# Altium footprint library Power Distribution Board PCB Lib.PcbLib: 19 footprints (part 1 of 2)
Each footprint in its own frame and in the unit in brackets; x right, y up, seen from the top. Pads: shape width x height; smd on the part's side, far side on the other; paste and mask are expansions set on the pad; w line width, h text height; cw(c..) or ccw(c..) is an arc to the next point about the centre after c.
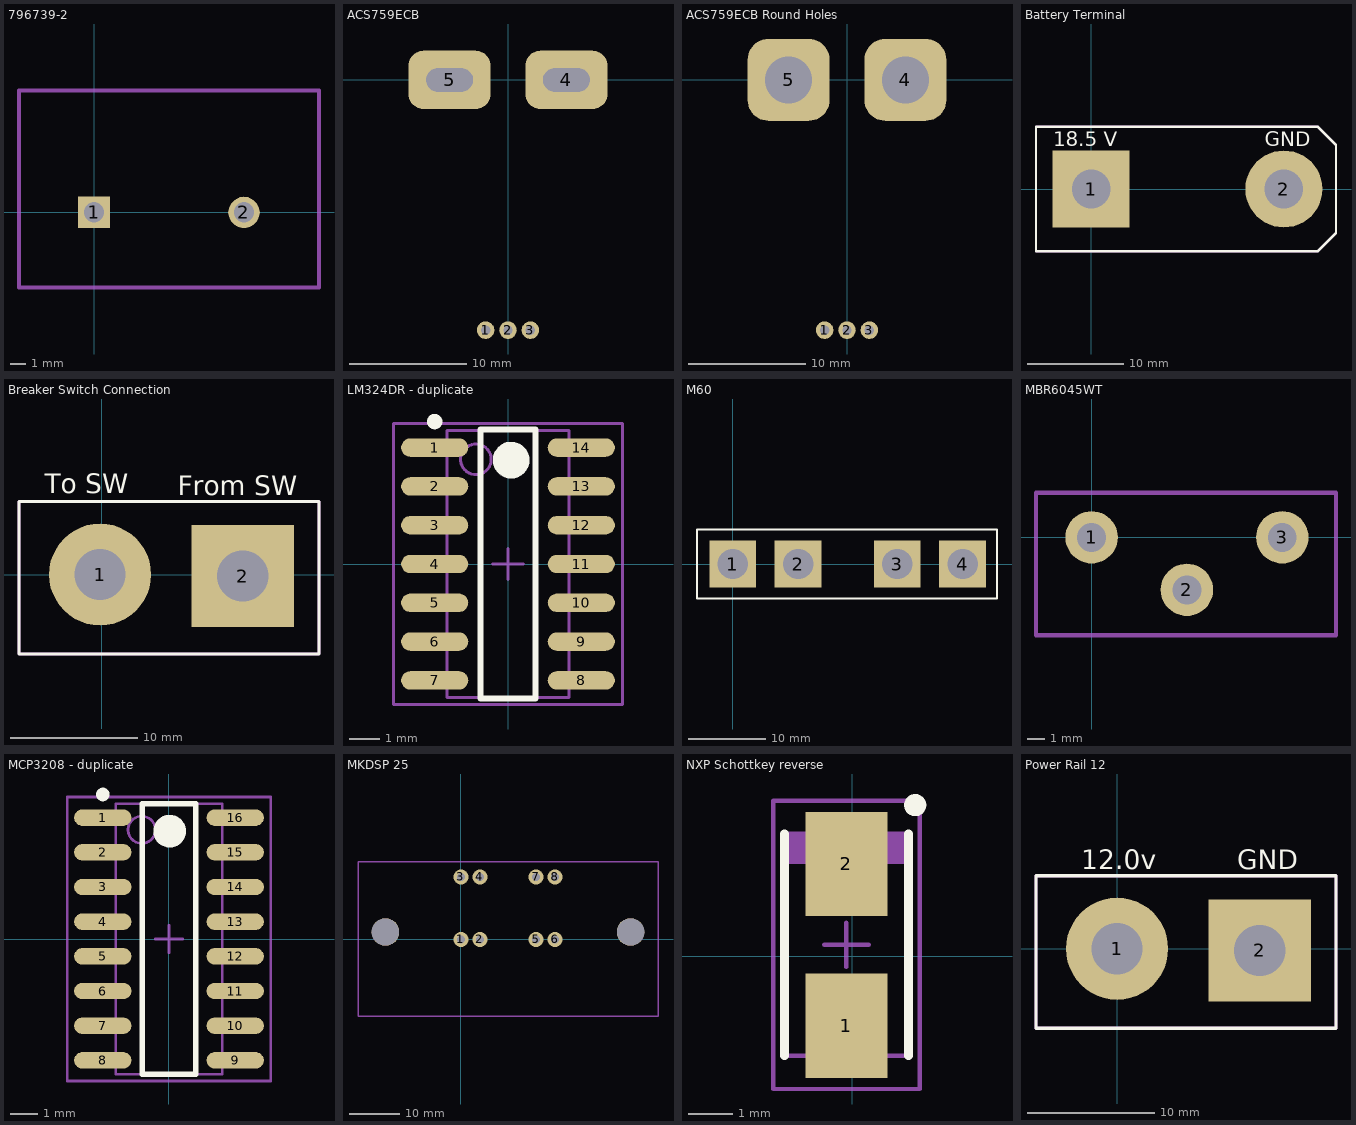
[diagram p0: the footprints below, top view; thin cyan lines are the x and y axes]

## 796739-2 [mm] "796739-2 Screw Terminal"
height 9.53
pads (2):
  rect 2x2 hole 1.3: 1(0,0)
  round 2 hole 1.3: 2(9.52,0)
Mechanical 1:
  lines w0.254: -4.76,-4.76 14.28,-4.76 14.28,7.74 -4.76,7.74 -4.76,-4.76

## ACS759ECB [mm] "Current Sensor"
height 7
pads (5):
  round 1.5 hole 0.8: 1(-1.91,-21.4) 2(0,-21.4) 3(1.91,-21.4)
  rrect50% 7x5 hole 2 slot 4 at 0 deg: 4(5,0) 5(-5,0)

## ACS759ECB Round Holes [mm] "Current Sensor"
height 7
pads (5):
  round 1.5 hole 0.8: 1(-1.91,-21.4) 2(0,-21.4) 3(1.91,-21.4)
  rrect50% 7x7 hole 4: 4(5,0) 5(-5,0)

## Battery Terminal [mm] "Custom batery Terminal"
pads (2):
  rect 8x8 hole 4: 1(0,0)
  round 8 hole 4: 2(20,0)
Top Overlay:
  lines w0.254: -5.715,-6.477 -5.715,6.477 23.495,6.477 25.4,4.572 25.4,-4.572 23.495,-6.477 -5.715,-6.477
  text "18.5 V" at -3.937,4.445 h1.52
  text "GND" at 18.034,4.445 h1.52
Mechanical 1:
  lines w0.254: -5.715,-6.477 -5.715,6.477 23.495,6.477 25.4,4.572 25.4,-4.572 23.495,-6.477 -5.715,-6.477
Mechanical 13:
  lines w0.254: -5.715,-6.477 -5.715,6.477 23.495,6.477 25.4,4.572 25.4,-4.572 23.495,-6.477 -5.715,-6.477

## Breaker Switch Connection [mm]
pads (2):
  round 8 hole 4: 1(-0.127,0)
  rect 8x8 hole 4: 2(11.049,-0.127)
Top Overlay:
  lines w0.254: -6.477,-6.223 17.018,-6.223 17.018,5.715 -6.477,5.715 -6.477,-6.096 -6.477,-6.223
  text "To SW" at -4.445,6.35 h1.52
  text "From SW" at 5.969,6.223 h1.52
Mechanical 13:
  lines w0.254: -6.477,-6.223 17.018,-6.223 17.018,5.715 -6.477,5.715 -6.477,-6.223

## LM324DR [mm] "LM324DR OpAmp"

## LM324DR - duplicate [mm] "LM324DR OPAMP"
height 1.75
pads (14):
  oval 2.2x0.6 smd: 1(-2.4,3.81) 2(-2.4,2.54) 3(-2.4,1.27) 4(-2.4,0) 5(-2.4,-1.27) 6(-2.4,-2.54) 7(-2.4,-3.81) 8(2.4,-3.81) 9(2.4,-2.54) 10(2.4,-1.27) 11(2.4,0) 12(2.4,1.27) 13(2.4,2.54) 14(2.4,3.81)
Top Overlay:
  circle w0.25: c-2.4,4.66 r0.125
  circle w0.6: c0.1,3.4 r0.3
  lines w0.2: -0.9,-4.4 -0.9,4.4 0.9,4.4 0.9,-4.4 -0.9,-4.4
Mechanical 13:
  circle w0.1: c-1.05,3.425 r0.5
  lines w0.1: -2,-4.375 -2,4.375 2,4.375 2,-4.375 -2,-4.375
Mechanical 15:
  lines w0.1: -0.5,0 0.5,0 ; 0,-0.5 0,0.5 ; -3.75,-4.6 -3.75,4.6 3.75,4.6 3.75,-4.6 -3.75,-4.6
3D body: height 1.75, standoff 0.25, extent -2,-4.375 2,4.375

## M60 [mm] "Automotive fuse carrier"
pads (4):
  rect 6x6 hole 3.9: 1(0,0) 2(8.4,0) 3(21.1,0) 4(29.5,0)
Top Overlay:
  lines w0.254: -4.572,-4.445 -4.572,4.445 33.909,4.445 33.909,-4.445 -4.572,-4.445

## MBR6045WT [mm] "Rectifier Diode"
pads (3):
  round 3 hole 1.65: 1(0,0) 2(5.45,-3) 3(10.9,0)
Mechanical 13:
  lines w0.254: -3.175,-5.588 -3.175,2.54 13.97,2.54 13.97,-5.588 -3.175,-5.588

## MBR6045WTG [mm] "Schottky Diode"

## MCP3208 [mm] "MCP3208 ADC"
height 1.25

## MCP3208 - duplicate [mm] "MCP3208 8 Channel ADC"
height 1.25
pads (16):
  oval 2.1x0.6 smd: 1(-2.425,4.445) 2(-2.425,3.175) 3(-2.425,1.905) 4(-2.425,0.635) 5(-2.425,-0.635) 6(-2.425,-1.905) 7(-2.425,-3.175) 8(-2.425,-4.445) 9(2.425,-4.445) 10(2.425,-3.175) 11(2.425,-1.905) 12(2.425,-0.635) 13(2.425,0.635) 14(2.425,1.905) 15(2.425,3.175) 16(2.425,4.445)
Top Overlay:
  circle w0.6: c0.025,3.95 r0.3
  circle w0.25: c-2.425,5.295 r0.125
  lines w0.2: -0.975,-4.95 0.975,-4.95 0.975,4.95 -0.975,4.95 -0.975,-4.95
Mechanical 13:
  circle w0.1: c-1,4 r0.5
  lines w0.1: -1.95,-4.95 1.95,-4.95 1.95,4.95 -1.95,4.95 -1.95,-4.95
Mechanical 15:
  lines w0.1: -0.5,0 0.5,0 ; 0,-0.5 0,0.5 ; -3.725,-5.2 3.725,-5.2 3.725,5.2 -3.725,5.2 -3.725,-5.2
3D body: height 1.25, standoff 0.25, extent -1.95,-4.95 1.95,4.95

## MKDSP 25 [mm] "MKDSP 25 High Current Screw Terminal"
height 39
pads (10):
  round 3 hole 1.6: 1(0,0) 2(3.8,0) 3(0,12.5) 4(3.8,12.5) 5(15,0) 6(18.8,0) 7(15,12.5) 8(18.8,12.5)
  round 5.5 hole 5.5: ""(-15.1,1.5) ""(33.9,1.5)
Mechanical 1:
  lines w0.254: -20.6,-15.367 -20.6,15.6 39.4,15.6 39.4,-15.4 29.083,-15.4 -10.414,-15.4 -20.567,-15.4

## NXP Schottkey reverse [mm]
pads (2):
  rect 1.85x2.35 smd: 1(-0.127,-1.571) 2(-0.127,2.079)
Top Overlay:
  circle w0.25: c1.423,3.404 r0.125
  lines w0.2: -1.527,-2.246 -1.527,2.754 ; 1.273,-2.246 1.273,2.754
Mechanical 13:
  region: -1.477,2.754 -1.477,2.081 1.223,2.081 1.223,2.754
  lines w0.1: -1.477,-2.246 1.223,-2.246 1.223,2.754 -1.477,2.754 -1.477,-2.246
Mechanical 15:
  lines w0.1: -0.627,0.254 0.373,0.254 ; -0.127,-0.246 -0.127,0.754 ; -1.777,-2.996 1.523,-2.996 1.523,3.504 -1.777,3.504 -1.777,-2.996
3D body: height 1.1, standoff 0, extent -1.477,-2.246 1.223,2.754

## PCBComponent_1 [mm]

## Power Rail 12 [mm]
pads (2):
  round 8 hole 4: 1(0,0)
  rect 8x8 hole 4: 2(11.176,-0.127)
Top Overlay:
  lines w0.254: -6.35,-6.223 -6.35,-6.096 -6.35,5.715 17.145,5.715 17.145,-6.223 -6.35,-6.223
  text "GND" at 9.398,6.223 h1.52
  text "12.0v" at -2.794,6.223 h1.52
Mechanical 13:
  lines w0.254: -6.35,-6.223 -6.35,5.715 17.145,5.715 17.145,-6.223 -6.35,-6.223